# Altium schematic symbol library SlotCarController.SchLib: 3 symbols
Pins are listed as number, name and electrical type; pins without a type are passive.

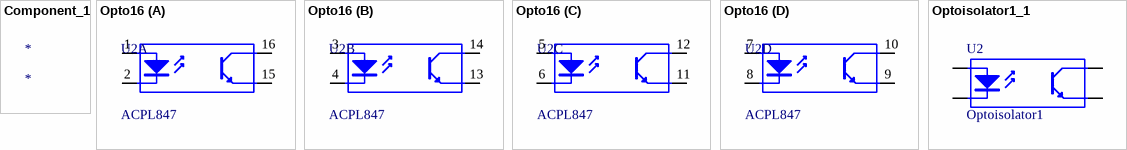
[diagram p0: symbols Component_1 to Optoisolator1_1]

## Component_1
designator *

## Opto16
designator U2, comment ACPL847
16-Pin 4-channel Phototransistor Optocoupler; Published: 24-Mar-1999; LatestRevisionDate: 04-Mar-2005; LatestRevisionNote: Sch pins 3 & 4 Swapped.; DatasheetDocument: Nov-2003; PackageReference: DIP-16; Publisher: tobi
footprint DIP16
part A pins: 1 A "Anode", 2 K "Cathode", 15 "Emitter", 16 "Collector"
part B pins: 3 "Anode", 4 "Cathode", 13 "Emitter", 14 "Collector"
part C pins: 5 "Anode", 6 "Cathode", 11 "Emitter", 12 "Collector"
part D pins: 7 "Anode", 8 "Cathode", 9 "Emitter", 10 "Collector"

## Optoisolator1_1
designator U2, comment Optoisolator1
4-Pin Phototransistor Optocoupler; Published: 24-Mar-1999; LatestRevisionDate: 04-Mar-2005; LatestRevisionNote: Sch pins 3 & 4 Swapped.; DatasheetDocument: Nov-2003; PackageReference: DIP-4; Publisher: Altium Limited
footprint DIP-4 (DIP; 4 Leads; Row Spacing 7.62 mm; Pitch 2.54 mm)
pins: 1 A "Anode", 2 K "Cathode", 3 E "Emitter", 4 C "Collector"